# EAGLE library part DWM1000 (library lieven)
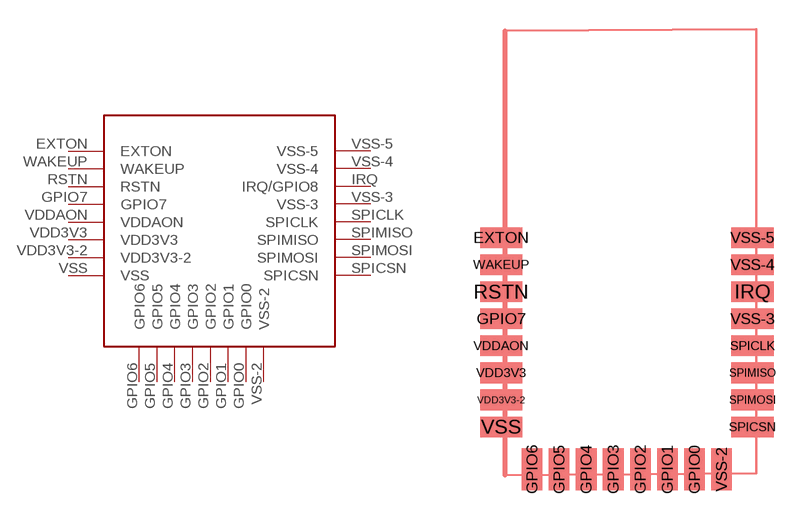
[diagram p22: symbol with the pads of DWM1000; footprint DWM1000]

Designator prefix -

## DWM1000  [DWM1000]
EXTON  EXTON
GPIO0  GPIO0
GPIO1  GPIO1
GPIO2  GPIO2
GPIO3  GPIO3
GPIO4  GPIO4
GPIO5  GPIO5
GPIO6  GPIO6
GPIO7  GPIO7
IRQ  IRQ/GPIO8
RSTN  RSTN
SPICLK  SPICLK
SPICSN  SPICSN
SPIMISO  SPIMISO
SPIMOSI  SPIMOSI
VDD3V3  VDD3V3
VDD3V3-2  VDD3V3-2
VDDAON  VDDAON
VSS  VSS
VSS-2  VSS-2
VSS-3  VSS-3
VSS-4  VSS-4
VSS-5  VSS-5
WAKEUP  WAKEUP

## Footprint DWM1000 (pad centres in mm)
smd 2.184 x 1.067: EXTON -0.2,12.2; GPIO7 -0.2,8; IRQ 12.8,9.4; RSTN -0.2,9.4; SPICLK 12.8,6.6; SPICSN 12.8,2.4; SPIMISO 12.8,5.2; SPIMOSI 12.8,3.8; VDD3V3 -0.2,5.2; VDD3V3-2 -0.2,3.8; VDDAON -0.2,6.6; VSS -0.2,2.4; VSS-3 12.8,8; VSS-4 12.8,10.8; VSS-5 12.8,12.2; WAKEUP -0.2,10.8
smd 1.067 x 2.184: GPIO0 9.8,0.2; GPIO1 8.4,0.2; GPIO2 7,0.2; GPIO3 5.6,0.2; GPIO4 4.2,0.2; GPIO5 2.8,0.2; GPIO6 1.4,0.2; VSS-2 11.2,0.2